# Altium footprint library 6-1123723-2.PcbLib: 2 footprints
Each footprint in its own frame and in the unit in brackets; x right, y up, seen from the top. Pads: shape width x height; smd on the part's side, far side on the other; paste and mask are expansions set on the pad; w line width, h text height; cw(c..) or ccw(c..) is an arc to the next point about the centre after c.
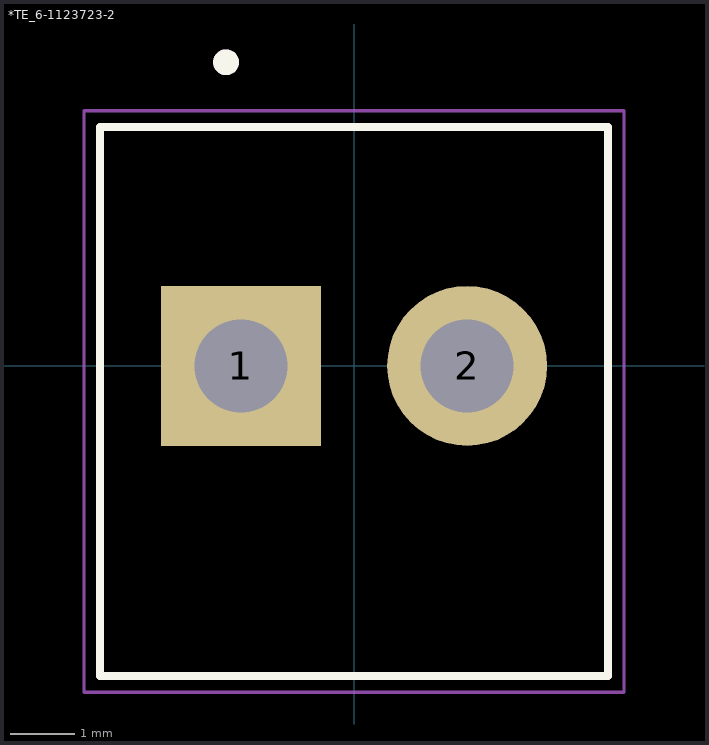
[diagram p0: the footprints below, top view; thin cyan lines are the x and y axes]

## *TE_6-1123723-2 [mm]
pads (2):
  rect 2.475x2.475 hole 1.44: 1(-1.75,0)
  round 2.475 hole 1.44: 2(1.75,0)
Top Overlay:
  circle w0.2: c-1.98,4.7 r0.1
  lines w0.127: -3.93,-4.8 -3.93,3.7 3.93,3.7 3.93,-4.8 -3.93,-4.8
Mechanical 4:
  circle w0.2: c-1.98,4.7 r0.1
  circle w0.2: c-1.98,4.7 r0.1
  lines w0.127: -3.93,-4.8 -3.93,3.7 ; -3.93,-4.8 3.93,-4.8 ; -3.93,-4.8 -3.93,3.7 ; -3.93,-4.8 3.93,-4.8 ; -3.93,3.7 3.93,3.7 ; -3.93,3.7 3.93,3.7 ; 3.93,-4.8 3.93,3.7 ; 3.93,-4.8 3.93,3.7
Mechanical 16:
  lines w0.05: -4.18,-5.05 -4.18,3.95 4.18,3.95 4.18,-5.05 -4.18,-5.05

## PCBComponent_1 [mm]